# EAGLE library part MCP4462 (library Potentiometer Digital)
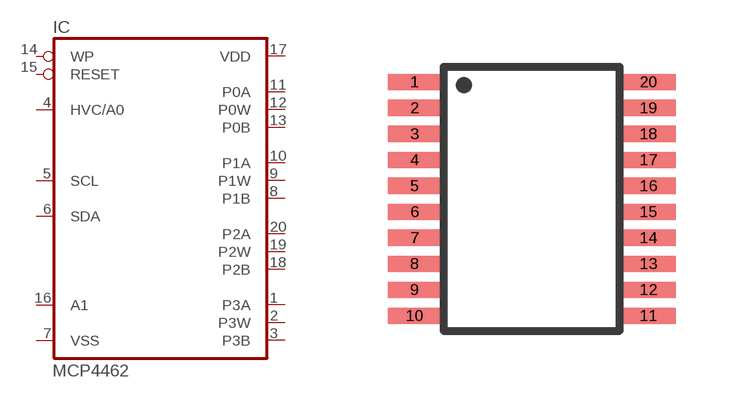
[diagram p2: symbol with the pads of TSSOP20; footprint TSSOP20]

Designator prefix IC

## MCP4462104E/ST  [TSSOP20]
1  P3A  pas
2  P3W  pas
3  P3B  pas
4  HVC/A0  in
5  SCL  in
6  SDA
7  VSS  pwr
8  P1B  pas
9  P1W  pas
10  P1A  pas
11  P0A  pas
12  P0W  pas
13  P0B  pas
14  WP  in
15  RESET  in
16  A1  in
17  VDD  pwr
18  P2B  pas
19  P2W  pas
20  P2A  pas

## Footprint TSSOP20 (pad centres in mm)
smd 1.35 x 0.4: 1 -2.925,2.925; 2 -2.925,2.275; 3 -2.925,1.625; 4 -2.925,0.975; 5 -2.925,0.325; 6 -2.925,-0.325; 7 -2.925,-0.975; 8 -2.925,-1.625; 9 -2.925,-2.275; 10 -2.925,-2.925; 11 2.925,-2.925; 12 2.925,-2.275; 13 2.925,-1.625; 14 2.925,-0.975; 15 2.925,-0.325; 16 2.925,0.325; 17 2.925,0.975; 18 2.925,1.625; 19 2.925,2.275; 20 2.925,2.925